# Altium footprint library HTSSOP-38.PcbLib: 1 footprints
Each footprint in its own frame and in the unit in brackets; x right, y up, seen from the top. Pads: shape width x height; smd on the part's side, far side on the other; paste and mask are expansions set on the pad; w line width, h text height; cw(c..) or ccw(c..) is an arc to the next point about the centre after c.
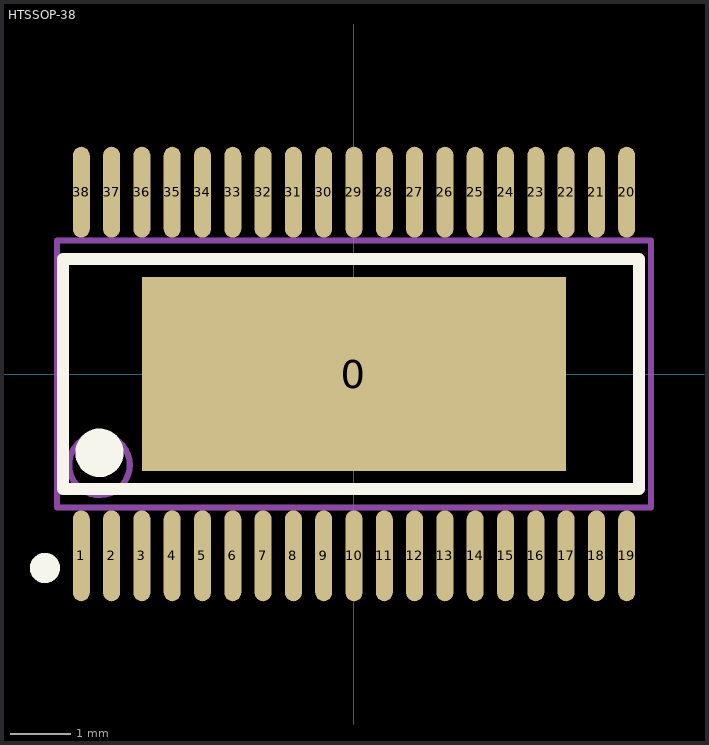
[diagram p0: the footprint, top view; thin cyan lines are the x and y axes]

## HTSSOP-38 [mm]
pads (39):
  rect 7x3.2 smd mask+0.051: 0(0,0)
  oval 0.28x1.5 smd mask+0.051: 1(-4.5,-3) 2(-4,-3) 3(-3.5,-3) 4(-3,-3) 5(-2.5,-3) 6(-2,-3) 7(-1.5,-3) 8(-1,-3) 9(-0.5,-3) 10(0,-3) 11(0.5,-3) 12(1,-3) 13(1.5,-3) 14(2,-3) 15(2.5,-3) 16(3,-3) 17(3.5,-3) 18(4,-3) 19(4.5,-3) 20(4.5,3) 21(4,3) 22(3.5,3) 23(3,3) 24(2.5,3) 25(2,3) 26(1.5,3) 27(1,3) 28(0.5,3) 29(0,3) 30(-0.5,3) 31(-1,3) 32(-1.5,3) 33(-2,3) 34(-2.5,3) 35(-3,3) 36(-3.5,3) 37(-4,3) 38(-4.5,3)
Top Overlay:
  circle w0.25: c-5.1,-3.2 r0.125
  circle w0.4: c-4.2,-1.3 r0.2
  lines w0.2: -4.8,-1.9 4.7,-1.9 4.7,1.9 -4.8,1.9 -4.8,-1.9
Mechanical 13:
  circle w0.1: c-4.2,-1.5 r0.5
  lines w0.1: -4.9,-2.2 -4.9,2.2 4.9,2.2 4.9,-2.2 -4.9,-2.2